# Altium schematic symbol library sensor.SchLib: 1 symbol
Pins are listed as number, name and electrical type; pins without a type are passive.

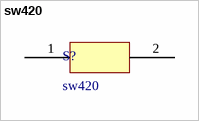
[diagram p0: symbol sw420]

## sw420
designator S?
常闭振动传感器
footprint sw420 (常闭型 振动开关SW-420 高灵敏震动开关2708全方位感应传感器)
pins: 1, 2